# EAGLE library part MAX4544 (library James_custom)
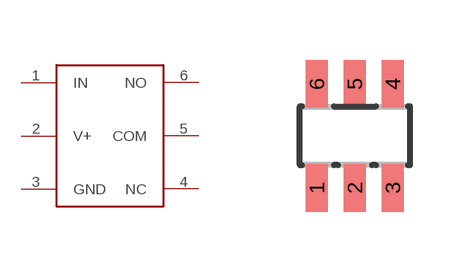
[diagram p7: symbol with the pads of SOT23-6; footprint SOT23-6]

Designator prefix -

## MAX4544  [SOT23-6]
1  IN
2  V+
3  GND
4  NC
5  COM
6  NO

## Footprint SOT23-6 (pad centres in mm)
5-Lead Small Outline Transistor Package SOT-23 Source: http://www.analog.com/UploadedFiles/Data_Sheets/346131962AD8067_a.pdf
smd 0.55 x 1.2: 1 -0.95,-1.3; 2 0,-1.3; 3 0.95,-1.3; 4 0.95,1.3; 5 0,1.3; 6 -0.95,1.3